# Altium integrated library ESP32 DEV Module.IntLib: 2 symbols
Pins are listed as number, name and electrical type; pins without a type are passive.

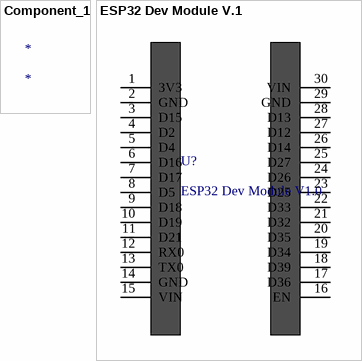
[diagram p0: symbols Component_1 to ESP32 Dev Module V.1]

## Component_1
designator *

## ESP32 Dev Module V.1
designator U?, comment ESP32 Dev Module V1.0
Development kit V1.0, ESP32-D0WD-V3, ESP32 ECO V3, 4 MB SPI flash, PCB antenna; Manufacturer: Espressif Systems; Manufacturer Part Number: ESP32-WROOM-32E(M113EH3200PH3Q0); Supplier: Digi-Key; Supplier Part Number: 1965-ESP32-WROOM-32E-N4TR-ND; RoHS: No; Category: RF Receivers, Transceivers; Pricing: 650=2.5 (USD)
footprint ESP32 Dev Kit V1.0
pins: 1 3V3, 2 GND, 3 D15, 4 D2, 5 D4, 6 D16, 7 D17, 8 D5, 9 D18, 10 D19, 11 D21, 12 RX0, 13 TX0, 14 GND, 15 VIN, 16 EN, 17 D36, 18 D39, 19 D34, 20 D35, 21 D32, 22 D33, 23 D25, 24 D26, 25 D27, 26 D14, 27 D12, 28 D13, 29 GND, 30 VIN